# EAGLE library part HEF4017BP (library NXP_By_element14_Batch_1)
5-stage Johnson decade counter
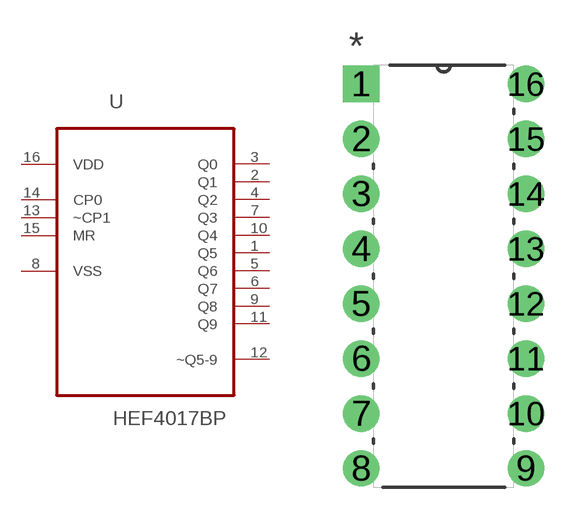
[diagram p244: symbol with the pads of DIP254P762X420-16; footprint DIP254P762X420-16]

Designator prefix U

## HEF4017BP (MPN: HEF4017BP; OC_FARNELL: 384720; OC_NEWARK: 10WX5399; PACKAGE: DIP-16; SUPPLIER: NXP)  [DIP254P762X420-16]
1  Q5  out
2  Q1  out
3  Q0  out
4  Q2  out
5  Q6  out
6  Q7  out
7  Q3  out
8  VSS  pas
9  Q8  out
10  Q4  out
11  Q9  out
12  ~Q5-9  out
13  ~CP1  in
14  CP0  in
15  MR  in
16  VDD  pwr

## Footprint DIP254P762X420-16 (pad centres in mm)
drill 1.118 square: 1 -7.62,17.78
drill 1.118: 2 -7.62,15.24; 3 -7.62,12.7; 4 -7.62,10.16; 5 -7.62,7.62; 6 -7.62,5.08; 7 -7.62,2.54; 8 -7.62,0; 9 0,0; 10 0,2.54; 11 0,5.08; 12 0,7.62; 13 0,10.16; 14 0,12.7; 15 0,15.24; 16 0,17.78